# Altium footprint library passive.PcbLib: 47 footprints (part 1 of 3)
Each footprint in its own frame and in the unit in brackets; x right, y up, seen from the top. Pads: shape width x height; smd on the part's side, far side on the other; paste and mask are expansions set on the pad; w line width, h text height; cw(c..) or ccw(c..) is an arc to the next point about the centre after c.
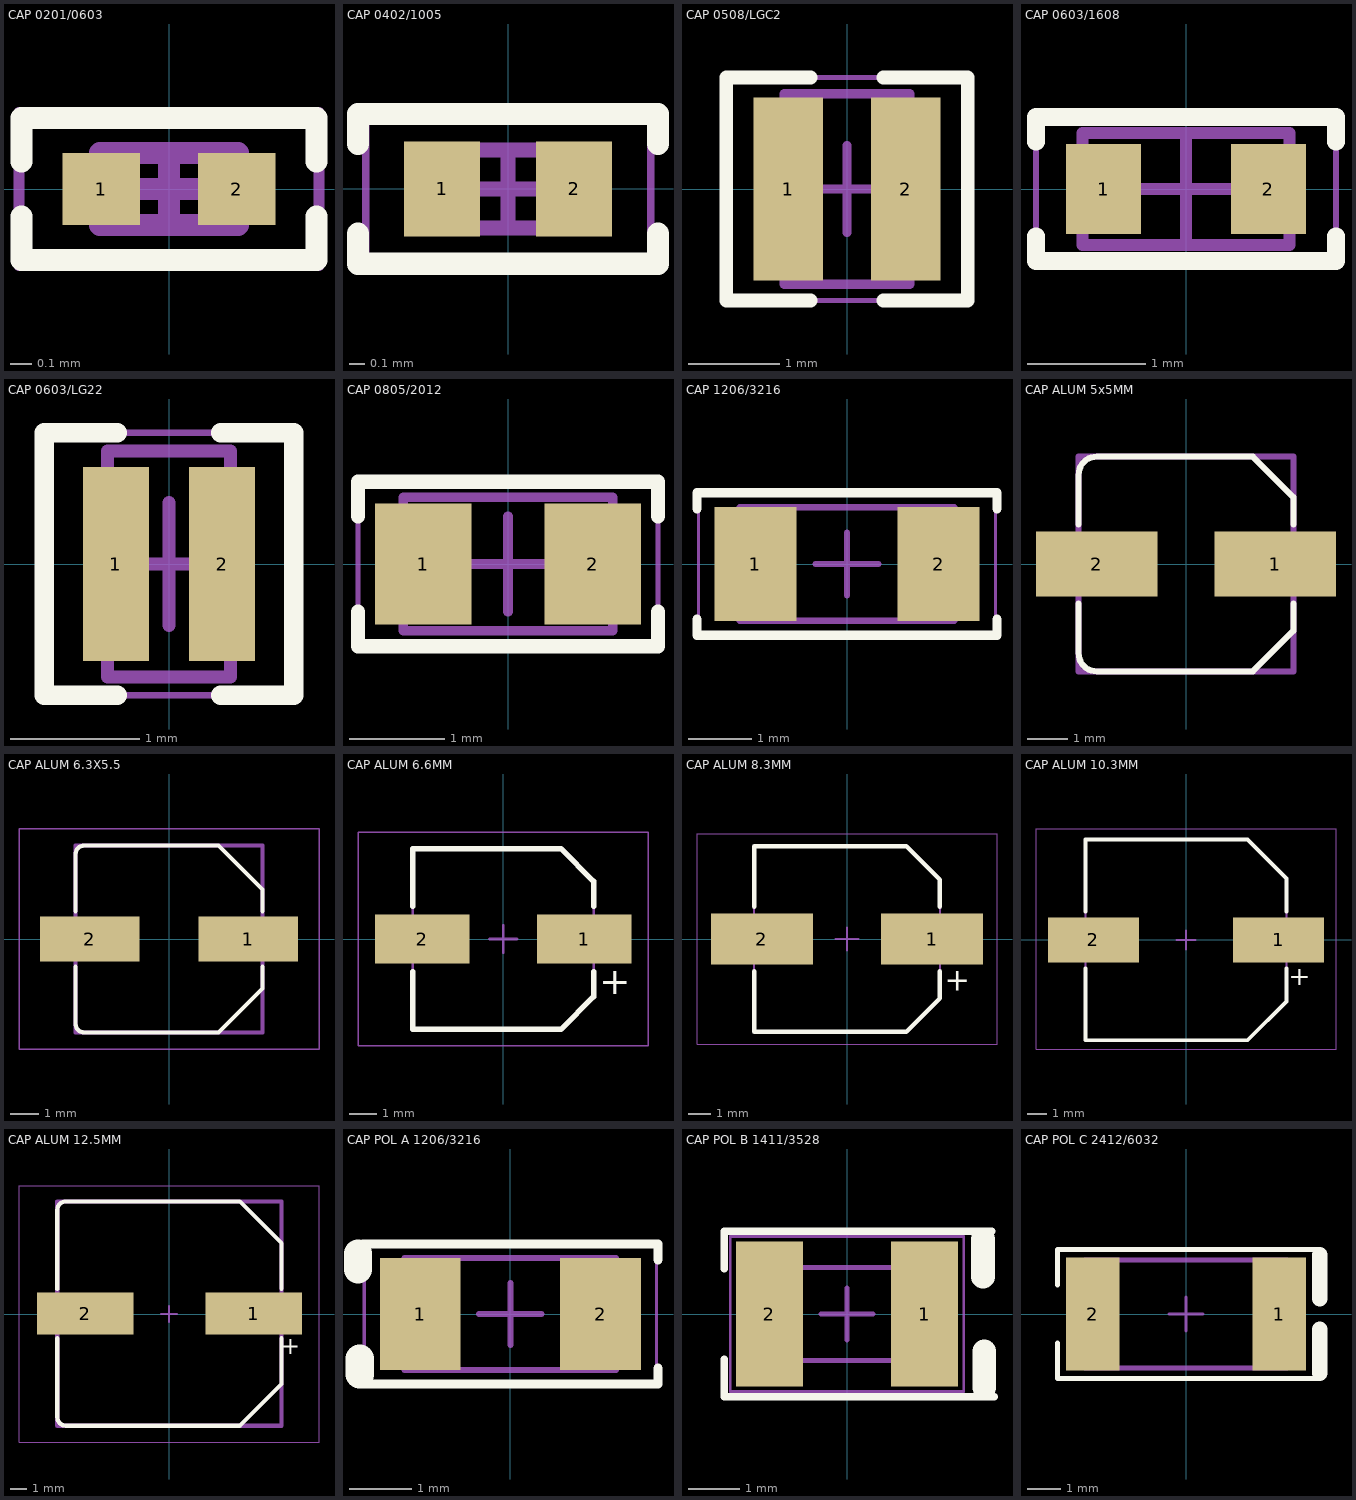
[diagram p0: the footprints below, top view; thin cyan lines are the x and y axes]

## CAP 0201/0603 [mil] "Chip Capacitor, 2-Leads, Body 0.60x0.30mm, IPC Medium Density"
height 12.99
pads (2):
  rect 14x13 smd: 1(-12.2,0) 2(12.2,0)
Top Overlay:
  lines w3.94: -26.57,-4.92 -26.57,-12.8 26.57,-12.8 26.57,-4.92 ; -26.57,4.92 -26.57,12.8 26.57,12.8 26.57,4.92
Mechanical 13:
  lines w3.94: -12.4,-6.5 12.4,-6.5 12.4,6.5 -12.4,6.5 -12.4,-6.5
Mechanical 15:
  lines w1.97: -27,-13.78 27,-13.78 27,13.78 -27,13.78 -27,-13.78
  lines w3.94: -6.5,0 6.5,0 ; 0,-6.5 0,6.5
3D body "CAP 0201.STEP": height 11.81, standoff 0, extent -11.81,-5.9 11.81,5.91

## CAP 0402/1005 [mm] "Chip Capacitor, 2-Leads, Body 1.02x0.51mm, IPC Medium Density"
height 0.52
pads (2):
  rect 0.508x0.635 smd: 1(-0.44,0) 2(0.44,0)
Top Overlay:
  lines w0.15: -1,-0.3 -1,-0.5 1,-0.5 1,-0.3 ; -1,0.3 -1,0.5 1,0.5 1,0.3
Mechanical 13:
  lines w0.1: -0.515,-0.26 -0.515,0.26 0.515,0.26 0.515,-0.26 -0.515,-0.26
Mechanical 15:
  lines w0.05: -0.95,-0.5 -0.95,0.5 0.95,0.5 0.95,-0.5 -0.95,-0.5
  lines w0.1: -0.26,0 0.26,0 ; 0,-0.26 0,0.26
3D body "0402 cap.STEP": height 0.52, standoff 0, extent -0.5,-0.262 0.5,0.262

## CAP 0508/LGC2 [mm] "Chip Capacitor, 2-Leads, Body 2.00x1.20mm, IPC Medium Density"
height 1.15
pads (2):
  rect 0.76x2 smd: 1(-0.64,0) 2(0.64,0)
Top Overlay:
  lines w0.15: -0.4,-1.219 -1.321,-1.219 -1.321,1.219 -0.4,1.219 ; 0.4,-1.219 1.321,-1.219 1.321,1.219 0.4,1.219
Mechanical 13:
  lines w0.1: -0.686,-1.041 0.686,-1.041 0.686,1.041 -0.686,1.041 -0.686,-1.041
Mechanical 15:
  lines w0.05: -1.321,-1.219 1.321,-1.219 1.321,1.219 -1.321,1.219 -1.321,-1.219
  lines w0.1: -0.475,0 0.475,0 ; 0,-0.475 0,0.475
3D body "Capacitor 0508.step": height 0.6, standoff 0, extent -0.635,-1 0.635,1

## CAP 0603/1608 [mil] "Chip Capacitor, 2-Leads, Body 1.60x0.80mm"
height 35.04
pads (2):
  rect 25x30 smd: 1(-27.5,0) 2(27.5,0)
Top Overlay:
  lines w5.91: -50,-15.75 -50,-24 50,-24 50,-15.75 ; -50,15.75 -50,24 50,24 50,15.75
Mechanical 13:
  lines w3.94: -34.45,-18.7 34.45,-18.7 34.45,18.7 -34.45,18.7 -34.45,-18.7
Mechanical 15:
  lines w1.97: -50,-23 50,-23 50,23 -50,23 -50,-23
  lines w3.94: -18.7,0 18.7,0 ; 0,-18.7 0,18.7
3D body "0603 cap.STEP": height 32.44, standoff 0, extent -31.49,-16.21 31.5,16.23

## CAP 0603/LG22 [mm] "Chip Capacitor, 2-Leads, Body 0.80mmx1.60"
height 0.89
pads (2):
  rect 0.51x1.5 smd: 1(-0.41,0) 2(0.41,0)
Top Overlay:
  lines w0.15: -0.4,-1.016 -0.965,-1.016 -0.965,1.016 -0.4,1.016 ; 0.4,-1.016 0.965,-1.016 0.965,1.016 0.4,1.016
Mechanical 13:
  lines w0.1: -0.475,-0.875 0.475,-0.875 0.475,0.875 -0.475,0.875 -0.475,-0.875
Mechanical 15:
  lines w0.05: -0.965,-1.016 0.965,-1.016 0.965,1.016 -0.965,1.016 -0.965,-1.016
  lines w0.1: -0.475,0 0.475,0 ; 0,-0.475 0,0.475
3D body "Capacitor 0306.STEP": height 0.6, standoff 0, extent -0.405,-0.8 0.405,0.8

## CAP 0805/2012 [mil] "Chip Capacitor, 2-Leads, Body 2.00x1.20mm, IPC Medium Density"
height 45.28
pads (2):
  rect 40x50 smd: 1(-35,0) 2(35,0)
Top Overlay:
  lines w5.91: -62,-19.68 -62,-34 62,-34 62,-19.68 ; -62,19.68 -62,34 62,34 62,19.68
Mechanical 13:
  lines w3.94: -43.31,-27.56 -43.31,27.56 43.31,27.56 43.31,-27.56 -43.31,-27.56
Mechanical 15:
  lines w1.97: -62,-34 -62,34 62,34 62,-34 -62,-34
  lines w3.94: -19.69,0 19.68,0 ; 0,-19.68 0,19.69
3D body "0805 cap.STEP": height 49.49, standoff -0.67, extent -39.37,-25.08 39.37,25.08

## CAP 1206/3216 [mm] "Chip Capacitor, 2-Leads, Body 3.25x1.60mm, IPC Medium Density"
height 1.6
pads (2):
  rect 1.3x1.8 smd: 1(-1.45,0) 2(1.45,0)
Top Overlay:
  lines w0.15: -2.375,-0.875 -2.375,-1.125 2.375,-1.125 2.375,-0.875 ; -2.375,0.875 -2.375,1.125 2.375,1.125 2.375,0.875
Mechanical 13:
  lines w0.1: -1.7,-0.9 -1.7,0.9 1.7,0.9 1.7,-0.9 -1.7,-0.9
Mechanical 15:
  lines w0.05: -2.35,-1.15 -2.35,1.15 2.35,1.15 2.35,-1.15 -2.35,-1.15
  lines w0.1: -0.5,0 0.5,0 ; 0,-0.5 0,0.5
3D body "1206 cap.STEP": height 1.62, standoff 0, extent -1.6,-0.812 1.6,0.812

## CAP ALUM 5x5MM [mm] "Aluminium Electrolytic V-Chip SMT Capacitors, Ф5x5.5mm"
height 5.5
pads (2):
  rect 3x1.6 smd: 1(2.2,0) 2(-2.2,0)
Top Overlay:
  lines w0.15: -2.65,-0.97 -2.65,-2.2 ccw(c-2.2,-2.2) -2.2,-2.65 1.65,-2.65 2.65,-1.65 2.65,-0.97 ; -2.65,0.97 -2.65,2.2 cw(c-2.2,2.2) -2.2,2.65 1.65,2.65 2.65,1.65 2.65,0.97
Mechanical 13:
  lines w0.15: -2.65,-2.65 2.65,-2.65 2.65,2.65 -2.65,2.65 -2.65,-2.65
3D body "5x5.5x1.4.stp": height 5.5, standoff 0, extent -3,-2.65 3,2.65

## CAP ALUM 6.3X5.5 [mm] "Aluminum Electrolytic Capacitor, Body 6.60x6.60x7.70mm, IPC Low Density"
height 7.7
pads (2):
  rect 3.5x1.6 smd: 1(2.8,0) 2(-2.8,0)
Top Overlay:
  lines w0.15: -3.3,-3 ccw(c-3,-3) -3,-3.3 1.75,-3.3 3.3,-1.75 3.3,-0.98 ; -3.3,-2.99 -3.3,-0.98 ; -3.3,0.98 -3.3,2.99 ; -3.3,3 cw(c-3,3) -3,3.3 1.75,3.3 3.3,1.75 3.3,0.98
Mechanical 13:
  lines w0.15: -3.3,-3.3 -3.3,3.3 3.3,3.3 3.3,-3.3 -3.3,-3.3
Mechanical 15:
  lines w0.05: -5.3,-3.9 -5.3,3.9 5.3,3.9 5.3,-3.9 -5.3,-3.9
3D body "6.3x5.5x2.2.stp": height 5.5, standoff 0, extent -3.65,-3.3 3.65,3.3

## CAP ALUM 6.6MM [mm] "Aluminum Electrolytic Capacitor, Body 6.60x6.60x7.70mm, IPC Low Density"
height 7.7
pads (2):
  rect 3.45x1.8 smd: 1(2.95,0) 2(-2.95,0)
Top Overlay:
  lines w0.2: -3.3,-1.2 -3.3,-3.3 2.1,-3.3 3.3,-2.1 3.3,-1.2 ; -3.3,1.2 -3.3,3.3 2.1,3.3 3.3,2.1 3.3,1.2
  text "+" at 4.648,-1.168 h1
Mechanical 13:
  lines w0.1: -3.3,-3.3 -3.3,3.3 2.1,3.3 3.3,2.1 3.3,-2.1 2.1,-3.3 -3.3,-3.3
Mechanical 15:
  lines w0.05: -5.3,-3.9 5.3,-3.9 5.3,3.9 -5.3,3.9 -5.3,-3.9
  lines w0.1: -0.5,0 0.5,0 ; 0,-0.5 0,0.5
3D body "CAP ALUM 6_6mm.STEP": height 7.7, standoff 0, extent -3.5,-3.3 3.5,3.3

## CAP ALUM 8.3MM [mm] "Aluminum Electrolytic Capacitor, Body 8.30x8.30x10.50mm, IPC Low Density"
height 10.5
pads (2):
  rect 4.55x2.3 smd: 1(3.8,0) 2(-3.8,0)
Top Overlay:
  lines w0.2: -4.15,-1.45 -4.15,-4.15 2.65,-4.15 4.15,-2.65 4.15,-1.45 ; -4.15,1.45 -4.15,4.15 2.65,4.15 4.15,2.65 4.15,1.45
  text "+" at 5.512,-1.448 h1
Mechanical 13:
  lines w0.1: -4.15,-4.15 2.65,-4.15 4.15,-2.65 4.15,2.65 2.65,4.15 -4.15,4.15 -4.15,-4.15
Mechanical 15:
  lines w0.05: -6.7,-4.7 -6.7,4.7 6.7,4.7 6.7,-4.7 -6.7,-4.7
  lines w0.1: -0.5,0 0.5,0 ; 0,-0.5 0,0.5
3D body "CAP ALUM 8_3mm.STEP": height 10.5, standoff 0, extent -4.95,-4.15 4.95,4.15

## CAP ALUM 10.3MM [mm] "Aluminum Electrolytic Capacitor, Body 10.30x10.30x10.50mm, IPC Low Density"
height 10.5
pads (2):
  rect 4.65x2.3 smd: 1(4.75,0) 2(-4.75,0)
Top Overlay:
  lines w0.2: -5.15,-1.45 -5.15,-5.15 3.15,-5.15 5.15,-3.15 5.15,-1.45 ; -5.15,1.45 -5.15,5.15 3.15,5.15 5.15,3.15 5.15,1.45
  text "+" at 6.401,-1.499 h1
Mechanical 13:
  lines w0.1: -5.15,-5.15 -5.15,5.15 3.15,5.15 5.15,3.15 5.15,-3.15 3.15,-5.15 -5.15,-5.15
Mechanical 15:
  lines w0.05: -7.7,-5.6 7.7,-5.6 7.7,5.7 -7.7,5.7 -7.7,-5.6
  lines w0.1: -0.5,0 0.5,0 ; 0,-0.5 0,0.5
3D body "CAP ALUM 10_3mm.STEP": height 10.5, standoff 0, extent -5.8,-5.15 5.8,5.15

## CAP ALUM 12.5MM [mm] "Aluminium Electrolytic V-Chip SMT Capacitors, 12.5x14mm"
height 14
pads (2):
  rect 5.8x2.5 smd: 1(5.075,0.025) 2(-5.025,0.025)
Top Overlay:
  lines w0.254: -6.7,-1.45 -6.7,-6.2 ccw(c-6.2,-6.2) -6.2,-6.7 4.25,-6.7 6.75,-4.2 6.75,-1.46 ; -6.7,1.5 -6.7,6.25 cw(c-6.2,6.25) -6.2,6.75 4.25,6.75 6.75,4.25 6.75,1.51
  text "+" at 7.874,-1.524 h1
Mechanical 13:
  lines w0.254: -6.7,-6.7 -6.7,6.75 6.75,6.75 6.75,-6.7 -6.7,-6.7
Mechanical 15:
  lines w0.05: -9,-7.7 -9,7.7 9,7.7 9,-7.7 -9,-7.7
  lines w0.1: -0.5,0 0.5,0 ; 0,-0.5 0,0.5
3D body: height 14, standoff 0, extent -7.075,-6.699 7.125,6.751

## CAP POL A 1206/3216 [mm] "Molded Capacitor, 2-Leads, Body 3.25x1.60mm, IPC Medium Density"
height 1.6
pads (2):
  rect 1.3x1.8 smd: 1(-1.45,0) 2(1.45,0)
Top Overlay:
  lines w0.15: -2.375,-1.125 2.375,-1.125 2.375,-0.875 ; -2.375,1.125 2.375,1.125 2.375,0.875
  lines w0.457: -2.451,0.723 -2.451,0.973 ; -2.426,-0.973 -2.426,-0.723
Mechanical 13:
  lines w0.1: -1.7,-0.9 1.7,-0.9 1.7,0.9 -1.7,0.9 -1.7,-0.9
Mechanical 15:
  lines w0.05: -2.35,-1.15 2.35,-1.15 2.35,1.15 -2.35,1.15 -2.35,-1.15
  lines w0.1: -0.5,0 0.5,0 ; 0,-0.5 0,0.5
3D body "tantalum 10uF.stp": height 1.6, standoff -0.1, extent -1.7,-0.762 1.7,0.838

## CAP POL B 1411/3528 [mm] "Molded Capacitor, 2-Leads, Body 3.50x2.80mm, IPC Medium Density"
height 1.9
pads (2):
  rect 1.3x2.8 smd: 1(1.5,0) 2(-1.5,0)
Top Overlay:
  lines w0.15: -2.375,-0.875 -2.375,-1.6 2.845,-1.6 ; -2.375,0.875 -2.375,1.6 2.794,1.6
  lines w0.457: 2.629,0.723 2.629,1.448 ; 2.654,-1.422 2.654,-0.723
Mechanical 13:
  lines w0.1: -1.7,-0.9 1.7,-0.9 1.7,0.9 -1.7,0.9 -1.7,-0.9
Mechanical 15:
  lines w0.05: -2.261,-1.499 2.261,-1.499 2.261,1.499 -2.261,1.499 -2.261,-1.499
  lines w0.1: -0.5,0 0.5,0 ; 0,-0.5 0,0.5
3D body "Tantalum Capacitor Case B.STEP": height 2.04, standoff -0.06, extent -1.846,-1.401 1.844,1.419

## CAP POL C 2412/6032 [mm] "Molded Capacitor, 2-Leads, Body 6.0x3.20mm, IPC Medium Density"
height 2.6
pads (2):
  rect 1.6x3.4 smd: 1(2.8,0) 2(-2.8,0)
Top Overlay:
  lines w0.15: -3.861,-0.875 -3.861,-1.93 4.013,-1.93 ; -3.861,0.875 -3.861,1.93 4.013,1.93
  lines w0.457: 4.013,-1.778 4.013,-0.457 ; 4.013,0.457 4.013,1.778
Mechanical 13:
  lines w0.1: -3,-1.6 3,-1.6 3,1.6 -3,1.6 -3,-1.6
Mechanical 15:
  lines w0.05: -3.048,-1.676 3.048,-1.676 3.048,1.676 -3.048,1.676 -3.048,-1.676
  lines w0.1: -0.5,0 0.5,0 ; 0,-0.5 0,0.5
3D body "CAP_TANT_6032-28_y.STEP": height 2.8, standoff 0, extent -3.15,-1.75 3.15,1.75